# EAGLE library part FMC-LPC (library bnahill)
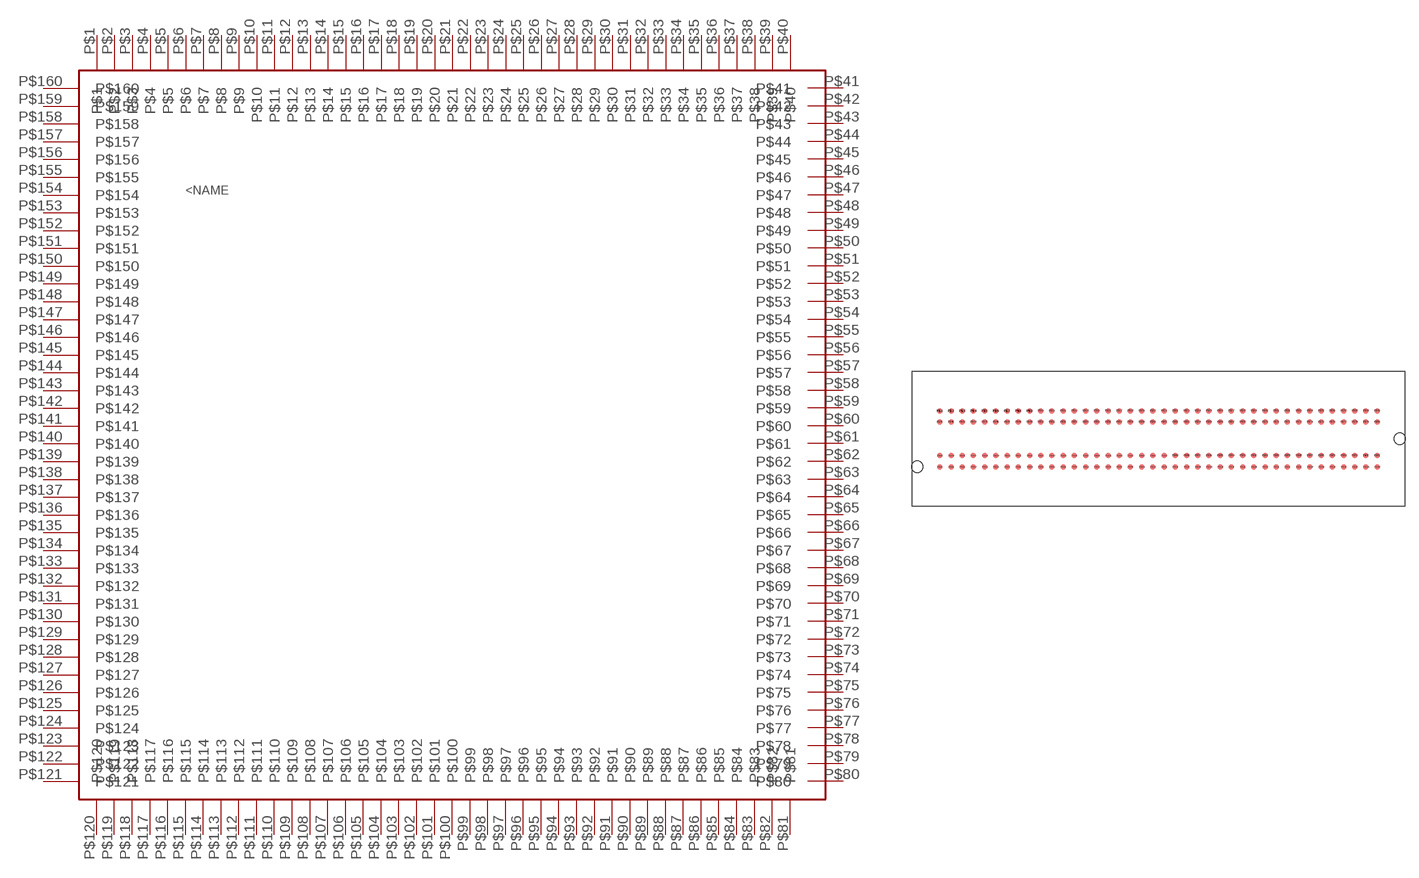
[diagram p2: symbol with the pads of FMC160; footprint FMC160]

Designator prefix -

## FMC-LPC  [FMC160]
P$1  P$1
P$2  P$2
P$3  P$3
P$4  P$4
P$5  P$5
P$6  P$6
P$7  P$7
P$8  P$8
P$9  P$9
P$10  P$10
P$11  P$11
P$12  P$12
P$13  P$13
P$14  P$14
P$15  P$15
P$16  P$16
P$17  P$17
P$18  P$18
P$19  P$19
P$20  P$20
P$21  P$21
P$22  P$22
P$23  P$23
P$24  P$24
P$25  P$25
P$26  P$26
P$27  P$27
P$28  P$28
P$29  P$29
P$30  P$30
P$31  P$31
P$32  P$32
P$33  P$33
P$34  P$34
P$35  P$35
P$36  P$36
P$37  P$37
P$38  P$38
P$39  P$39
P$40  P$40
P$41  P$41
P$42  P$42
P$43  P$43
P$44  P$44
P$45  P$45
P$46  P$46
P$47  P$47
P$48  P$48
P$49  P$49
P$50  P$50
P$51  P$51
P$52  P$52
P$53  P$53
P$54  P$54
P$55  P$55
P$56  P$56
P$57  P$57
P$58  P$58
P$59  P$59
P$60  P$60
P$61  P$61
P$62  P$62
P$63  P$63
P$64  P$64
P$65  P$65
P$66  P$66
P$67  P$67
P$68  P$68
P$69  P$69
P$70  P$70
P$71  P$71
P$72  P$72
P$73  P$73
P$74  P$74
P$75  P$75
P$76  P$76
P$77  P$77
P$78  P$78
P$79  P$79
P$80  P$80
P$81  P$81
P$82  P$82
P$83  P$83
P$84  P$84
P$85  P$85
P$86  P$86
P$87  P$87
P$88  P$88
P$89  P$89
P$90  P$90
P$91  P$91
P$92  P$92
P$93  P$93
P$94  P$94
P$95  P$95
P$96  P$96
P$97  P$97
P$98  P$98
P$99  P$99
P$100  P$100
P$101  P$101
P$102  P$102
P$103  P$103
P$104  P$104
P$105  P$105
P$106  P$106
P$107  P$107
P$108  P$108
P$109  P$109
P$110  P$110
P$111  P$111
P$112  P$112
P$113  P$113
P$114  P$114
P$115  P$115
P$116  P$116
P$117  P$117
P$118  P$118
P$119  P$119
P$120  P$120
P$121  P$121
P$122  P$122
P$123  P$123
P$124  P$124
P$125  P$125
P$126  P$126
P$127  P$127
P$128  P$128
P$129  P$129
P$130  P$130
P$131  P$131
P$132  P$132
P$133  P$133
P$134  P$134
P$135  P$135
P$136  P$136
P$137  P$137
P$138  P$138
P$139  P$139
P$140  P$140
P$141  P$141
P$142  P$142
P$143  P$143
P$144  P$144
P$145  P$145
P$146  P$146
P$147  P$147
P$148  P$148
P$149  P$149
P$150  P$150
P$151  P$151
P$152  P$152
P$153  P$153
P$154  P$154
P$155  P$155
P$156  P$156
P$157  P$157
P$158  P$158
P$159  P$159
P$160  P$160

## Footprint FMC160 (pad centres in mm)
smd 0.64 x 0.64: P$1 -24.765,3.175; P$2 -23.495,3.175; P$3 -22.225,3.175; P$4 -20.955,3.175; P$5 -19.685,3.175; P$6 -18.415,3.175; P$7 -17.145,3.175; P$8 -15.875,3.175; P$9 -14.605,3.175; P$10 -13.335,3.175; P$11 -12.065,3.175; P$12 -10.795,3.175; P$13 -9.525,3.175; P$14 -8.255,3.175; P$15 -6.985,3.175; P$16 -5.715,3.175; P$17 -4.445,3.175; P$18 -3.175,3.175; P$19 -1.905,3.175; P$20 -0.635,3.175; P$21 0.635,3.175; P$22 1.905,3.175; P$23 3.175,3.175; P$24 4.445,3.175; P$25 5.715,3.175; P$26 6.985,3.175; P$27 8.255,3.175; P$28 9.525,3.175; P$29 10.795,3.175; P$30 12.065,3.175; P$31 13.335,3.175; P$32 14.605,3.175; P$33 15.875,3.175; P$34 17.145,3.175; P$35 18.415,3.175; P$36 19.685,3.175; P$37 20.955,3.175; P$38 22.225,3.175; P$39 23.495,3.175; P$40 24.765,3.175; P$41 -24.765,1.905; P$42 -23.495,1.905; P$43 -22.225,1.905; P$44 -20.955,1.905; P$45 -19.685,1.905; P$46 -18.415,1.905; P$47 -17.145,1.905; P$48 -15.875,1.905; P$49 -14.605,1.905; P$50 -13.335,1.905; P$51 -12.065,1.905; P$52 -10.795,1.905; P$53 -9.525,1.905; P$54 -8.255,1.905; P$55 -6.985,1.905; P$56 -5.715,1.905; P$57 -4.445,1.905; P$58 -3.175,1.905; P$59 -1.905,1.905; P$60 -0.635,1.905; P$61 0.635,1.905; P$62 1.905,1.905; P$63 3.175,1.905; P$64 4.445,1.905; P$65 5.715,1.905; P$66 6.985,1.905; P$67 8.255,1.905; P$68 9.525,1.905; P$69 10.795,1.905; P$70 12.065,1.905; P$71 13.335,1.905; P$72 14.605,1.905; P$73 15.875,1.905; P$74 17.145,1.905; P$75 18.415,1.905; P$76 19.685,1.905; P$77 20.955,1.905; P$78 22.225,1.905; P$79 23.495,1.905; P$80 24.765,1.905; P$81 24.765,-1.905; P$82 23.495,-1.905; P$83 22.225,-1.905; P$84 20.955,-1.905; P$85 19.685,-1.905; P$86 18.415,-1.905; P$87 17.145,-1.905; P$88 15.875,-1.905; P$89 14.605,-1.905; P$90 13.335,-1.905; P$91 12.065,-1.905; P$92 10.795,-1.905; P$93 9.525,-1.905; P$94 8.255,-1.905; P$95 6.985,-1.905; P$96 5.715,-1.905; P$97 4.445,-1.905; P$98 3.175,-1.905; P$99 1.905,-1.905; P$100 0.635,-1.905; P$101 -0.635,-1.905; P$102 -1.905,-1.905; P$103 -3.175,-1.905; P$104 -4.445,-1.905; P$105 -5.715,-1.905; P$106 -6.985,-1.905; P$107 -8.255,-1.905; P$108 -9.525,-1.905; P$109 -10.795,-1.905; P$110 -12.065,-1.905; P$111 -13.335,-1.905; P$112 -14.605,-1.905; P$113 -15.875,-1.905; P$114 -17.145,-1.905; P$115 -18.415,-1.905; P$116 -19.685,-1.905; P$117 -20.955,-1.905; P$118 -22.225,-1.905; P$119 -23.495,-1.905; P$120 -24.765,-1.905; P$121 -24.765,-3.175; P$122 -23.495,-3.175; P$123 -22.225,-3.175; P$124 -20.955,-3.175; P$125 -19.685,-3.175; P$126 -18.415,-3.175; P$127 -17.145,-3.175; P$128 -15.875,-3.175; P$129 -14.605,-3.175; P$130 -13.335,-3.175; P$131 -12.065,-3.175; P$132 -10.795,-3.175; P$133 -9.525,-3.175; P$134 -8.255,-3.175; P$135 -6.985,-3.175; P$136 -5.715,-3.175; P$137 -4.445,-3.175; P$138 -3.175,-3.175; P$139 -1.905,-3.175; P$140 -0.635,-3.175; P$141 0.635,-3.175; P$142 1.905,-3.175; P$143 3.175,-3.175; P$144 4.445,-3.175; P$145 5.715,-3.175; P$146 6.985,-3.175; P$147 8.255,-3.175; P$148 9.525,-3.175; P$149 10.795,-3.175; P$150 12.065,-3.175; P$151 13.335,-3.175; P$152 14.605,-3.175; P$153 15.875,-3.175; P$154 17.145,-3.175; P$155 18.415,-3.175; P$156 19.685,-3.175; P$157 20.955,-3.175; P$158 22.225,-3.175; P$159 23.495,-3.175; P$160 24.765,-3.175
hole 1.27 at -27.305,-3.175
hole 1.27 at 27.305,0